# EAGLE library part MT48H4M16LF (library memory-micron)
SDRAM - Mobile 1 Meg x 16 x 4 banks
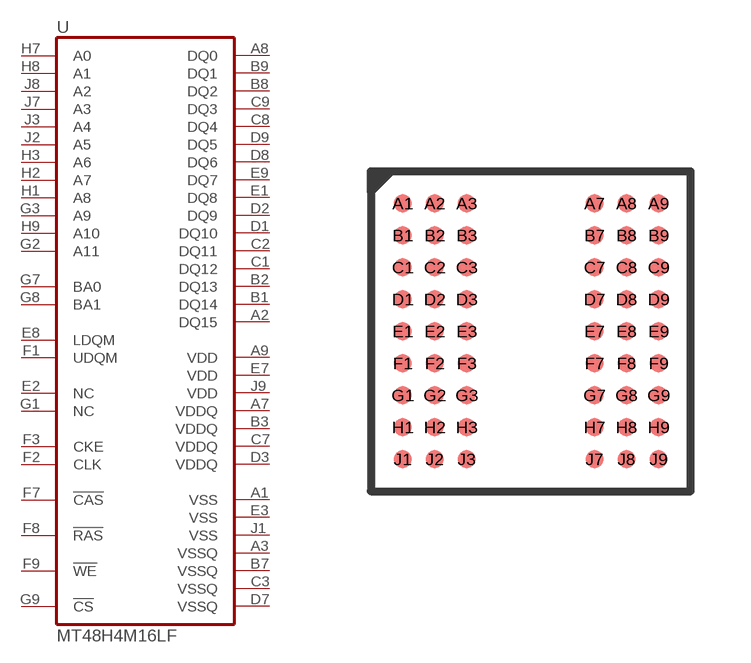
[diagram p3: symbol with the pads of VFBGA54; footprint VFBGA54]

Designator prefix U

## MT48H4M16LF  [VFBGA54]
A1  VSS  pwr
A2  DQ15
A3  VSSQ  pwr
A7  VDDQ  pwr
A8  DQ0
A9  VDD  pwr
B1  DQ14
B2  DQ13
B3  VDDQ  pwr
B7  VSSQ  pwr
B8  DQ2
B9  DQ1
C1  DQ12
C2  DQ11
C3  VSSQ  pwr
C7  VDDQ  pwr
C8  DQ4
C9  DQ3
D1  DQ10
D2  DQ9
D3  VDDQ  pwr
D7  VSSQ  pwr
D8  DQ6
D9  DQ5
E1  DQ8
E2  NC  nc
E3  VSS  pwr
E7  VDD  pwr
E8  LDQM  in
E9  DQ7
F1  UDQM  in
F2  CLK  in
F3  CKE  in
F7  !CAS!  in
F8  !RAS!  in
F9  !WE!  in
G1  NC  nc
G2  A11  in
G3  A9  in
G7  BA0  in
G8  BA1  in
G9  !CS!  in
H1  A8  in
H2  A7  in
H3  A6  in
H7  A0  in
H8  A1  in
H9  A10  in
J1  VSS  pwr
J2  A5  in
J3  A4  in
J7  A3  in
J8  A2  in
J9  VDD  pwr

## Footprint VFBGA54 (pad centres in mm)
VFBGA 54 54-Ball (8 x 8 mm), pitch 0.8 mm
smd 0.45 x 0.45: A1 -3.2,3.2; A2 -2.4,3.2; A3 -1.6,3.2; A7 1.6,3.2; A8 2.4,3.2; A9 3.2,3.2; B1 -3.2,2.4; B2 -2.4,2.4; B3 -1.6,2.4; B7 1.6,2.4; B8 2.4,2.4; B9 3.2,2.4; C1 -3.2,1.6; C2 -2.4,1.6; C3 -1.6,1.6; C7 1.6,1.6; C8 2.4,1.6; C9 3.2,1.6; D1 -3.2,0.8; D2 -2.4,0.8; D3 -1.6,0.8; D7 1.6,0.8; D8 2.4,0.8; D9 3.2,0.8; E1 -3.2,0; E2 -2.4,0; E3 -1.6,0; E7 1.6,0; E8 2.4,0; E9 3.2,0; F1 -3.2,-0.8; F2 -2.4,-0.8; F3 -1.6,-0.8; F7 1.6,-0.8; F8 2.4,-0.8; F9 3.2,-0.8; G1 -3.2,-1.6; G2 -2.4,-1.6; G3 -1.6,-1.6; G7 1.6,-1.6; G8 2.4,-1.6; G9 3.2,-1.6; H1 -3.2,-2.4; H2 -2.4,-2.4; H3 -1.6,-2.4; H7 1.6,-2.4; H8 2.4,-2.4; H9 3.2,-2.4; J1 -3.2,-3.2; J2 -2.4,-3.2; J3 -1.6,-3.2; J7 1.6,-3.2; J8 2.4,-3.2; J9 3.2,-3.2